# Altium footprint library M7.PcbLib: 3 footprints
Each footprint in its own frame and in the unit in brackets; x right, y up, seen from the top. Pads: shape width x height; smd on the part's side, far side on the other; paste and mask are expansions set on the pad; w line width, h text height; cw(c..) or ccw(c..) is an arc to the next point about the centre after c.
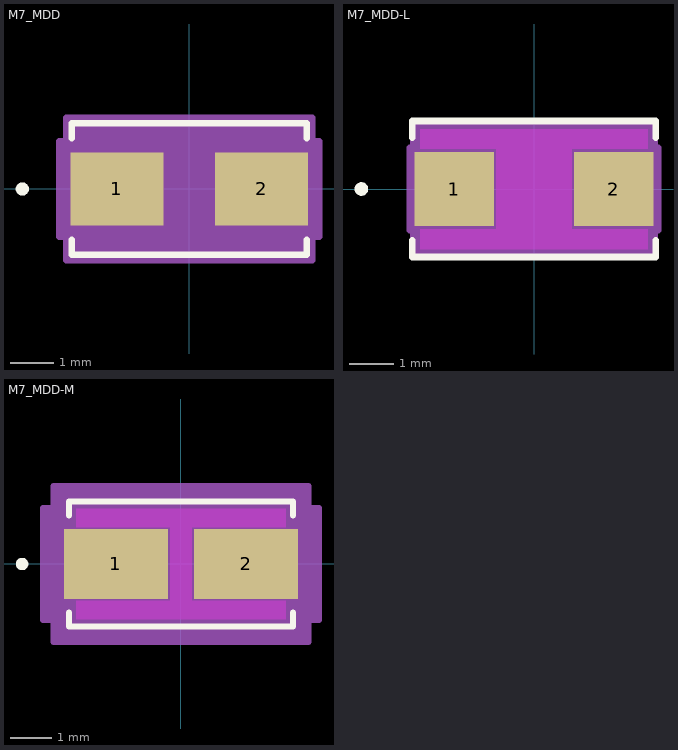
[diagram p0: the footprints below, top view; thin cyan lines are the x and y axes]

## M7_MDD [mil]
pads (2):
  rect 85x67 smd paste+0 mask+0: 1(-66,0) 2(66,0)
Top Overlay:
  circle w6: c-152.5,0 r3
  lines w6: -107.5,-46.6 -107.5,-60 107.5,-60 107.5,-46.6 ; -107.5,46.6 -107.5,60 107.5,60 107.5,46.6
Mechanical 13:
  circle w0: c-92.5,0 r3
  lines w1: -102.5,-55 -102.5,55 102.5,55 102.5,-55 -102.5,-55
Mechanical 15:
  region: -112.5,-43.5 -118.5,-43.5 -118.5,43.5 -112.5,43.5 -112.5,65 112.5,65 112.5,43.5 118.5,43.5 118.5,-43.5 112.5,-43.5 112.5,-65 -112.5,-65
  lines w6: -118.5,-43.5 -112.5,-43.5 -112.5,-65 112.5,-65 112.5,-43.5 118.5,-43.5 118.5,43.5 112.5,43.5 112.5,65 -112.5,65 -112.5,43.5 -118.5,43.5 -118.5,-43.5
3D body "M7_MDD.step": height 89.02, standoff 0, extent -102.52,-55 102.52,55

## M7_MDD-L [mil]
pads (2):
  rect 70x65 smd paste+0 mask+0: 1(-70.5,0) 2(70.5,0)
Top Layer keep-out:
  region: -33.5,-35.5 -33.5,35.5 33.5,35.5 33.5,-35.5
  region: -100.5,35.5 -100.5,53 100.5,53 100.5,35.5
  region: -100.5,-53 -100.5,-35.5 100.5,-35.5 100.5,-53
Top Overlay:
  circle w6: c-152.5,0 r3
  lines w6: -107.5,-45.45 -107.5,-60 107.5,-60 107.5,-45.45 ; -107.5,45.45 -107.5,60 107.5,60 107.5,45.45
Keep-Out Layer:
  region: -33.5,-35.5 -33.5,35.5 33.5,35.5 33.5,-35.5
Mechanical 13:
  circle w0: c-92.5,0 r3
  lines w1: -102.5,-55 102.5,-55 102.5,55 -102.5,55 -102.5,-55
Mechanical 15:
  region: -106.5,-36.5 -109.5,-36.5 -109.5,36.5 -106.5,36.5 -106.5,59 106.5,59 106.5,36.5 109.5,36.5 109.5,-36.5 106.5,-36.5 106.5,-59 -106.5,-59
  lines w6: -109.5,-36.5 -109.5,36.5 -106.5,36.5 -106.5,59 106.5,59 106.5,36.5 109.5,36.5 109.5,-36.5 106.5,-36.5 106.5,-59 -106.5,-59 -106.5,-36.5 -109.5,-36.5
3D body "M7_MDD.step": height 89.02, standoff 0, extent -102.52,-55 102.52,55

## M7_MDD-M [mil]
pads (2):
  rect 100x67 smd paste+0 mask+0: 1(-62.5,0) 2(62.5,0)
Top Layer keep-out:
  region: -10.5,-35.5 -10.5,35.5 10.5,35.5 10.5,-35.5
  region: -100.5,35.5 -100.5,53 100.5,53 100.5,35.5
  region: -100.5,-53 -100.5,-35.5 100.5,-35.5 100.5,-53
Top Overlay:
  circle w6: c-152.5,0 r3
  lines w6: -107.5,-46.6 -107.5,-60 107.5,-60 107.5,-46.6 ; -107.5,46.6 -107.5,60 107.5,60 107.5,46.6
Keep-Out Layer:
  region: -10.5,-35.5 -10.5,35.5 10.5,35.5 10.5,-35.5
Mechanical 13:
  circle w0: c-92.5,0 r3
  lines w1: -102.5,-55 102.5,-55 102.5,55 -102.5,55 -102.5,-55
Mechanical 15:
  region: -122.5,-53.5 -132.5,-53.5 -132.5,53.5 -122.5,53.5 -122.5,75 122.5,75 122.5,53.5 132.5,53.5 132.5,-53.5 122.5,-53.5 122.5,-75 -122.5,-75
  lines w6: -132.5,-53.5 -132.5,53.5 -122.5,53.5 -122.5,75 122.5,75 122.5,53.5 132.5,53.5 132.5,-53.5 122.5,-53.5 122.5,-75 -122.5,-75 -122.5,-53.5 -132.5,-53.5
3D body "M7_MDD.step": height 89.02, standoff 0, extent -102.52,-55 102.52,55